# Altium footprint library CONN2X7X.1.PcbLib: 1 footprints
Each footprint in its own frame and in the unit in brackets; x right, y up, seen from the top. Pads: shape width x height; smd on the part's side, far side on the other; paste and mask are expansions set on the pad; w line width, h text height; cw(c..) or ccw(c..) is an arc to the next point about the centre after c.
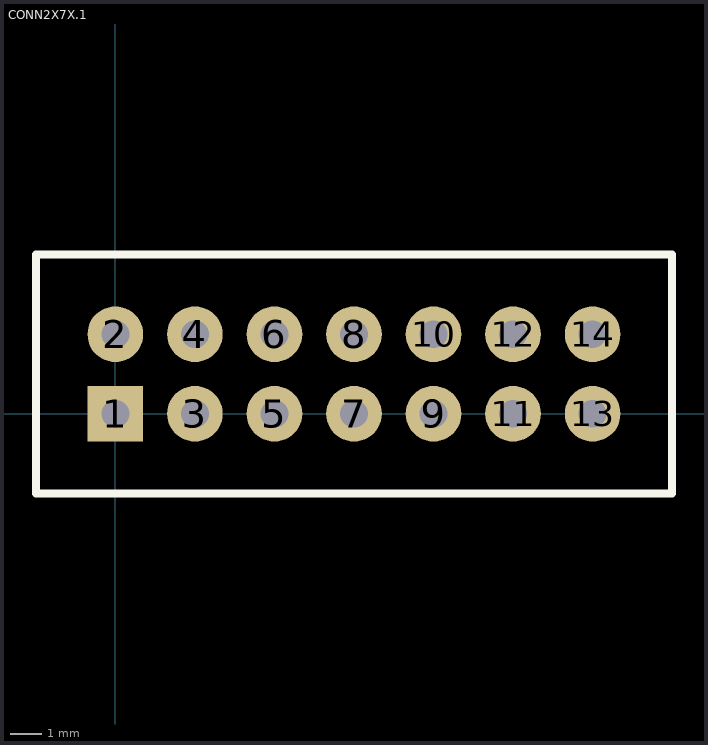
[diagram p0: the footprint, top view; thin cyan lines are the x and y axes]

## CONN2X7X.1 [mil]
height 390
pads (14):
  rect 70x70 hole 35: 1(0,0)
  round 70 hole 35: 2(0,100) 3(100,0) 4(100,100) 5(200,0) 6(200,100) 7(300,0) 8(300,100) 9(400,0) 10(400,100) 11(500,0) 12(500,100) 13(600,0) 14(600,100)
TopOverlay:
  lines w10: -100,-100 700,-100 700,200 -100,200 -100,-100
Mechanical4:
  text ".340" at 0,0 h1